# EAGLE library part MICROSD (library CalvEngIO-Connectors)
Micro-SD / Transflash card holder with SPI pinout For the 3M # 2908-05WB-MG and/or 4UCON #19656 push-push type
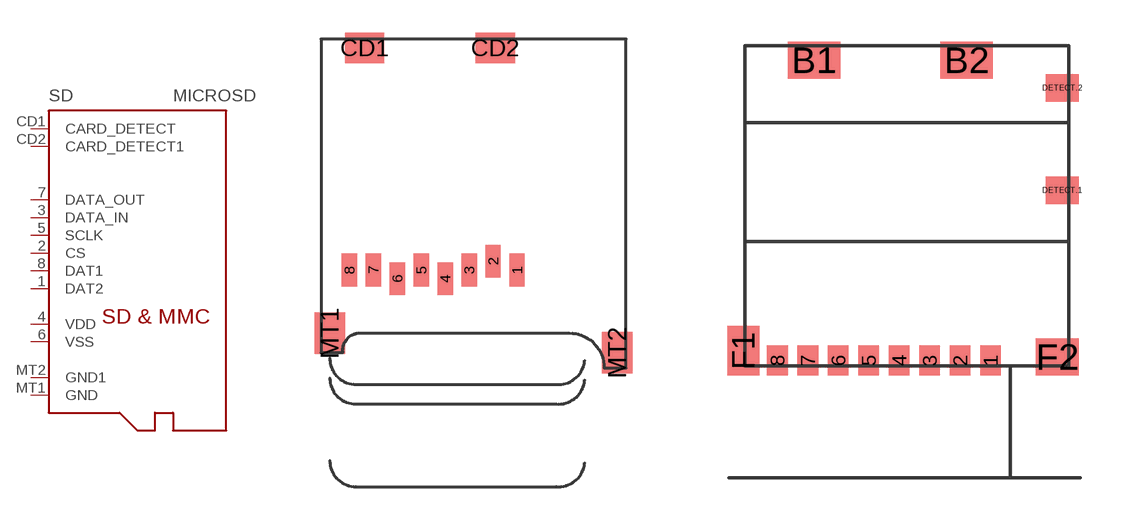
[diagram p14: symbol with the pads of MICROSD; footprints MICROSD, MICROSD.1040310811]

Designator prefix SD

## MICROSD  [MICROSD]
1  DAT2
2  CS  in
3  DATA_IN  in
4  VDD  sup
5  SCLK  in
6  VSS  sup
7  DATA_OUT  out
8  DAT1
CD1  CARD_DETECT  pas
CD2  CARD_DETECT1  pas
MT1  GND  sup
MT2  GND1  sup

## MICROSD.1040310811  [MICROSD.1040310811]
1  DAT2
2  CS  in
3  DATA_IN  in
4  VDD  sup
5  SCLK  in
6  VSS  sup
7  DATA_OUT  out
8  DAT1
B1  GND  sup
B2  GND  sup
DETECT.1  CARD_DETECT  pas
DETECT.2  CARD_DETECT1  pas
F1  GND1  sup
F2  GND1  sup

## Footprint MICROSD (pad centres in mm)
smd 0.7 x 1.5: 1 9,-10.64; 2 7.9,-10.24; 3 6.8,-10.64; 4 5.7,-11.04; 5 4.6,-10.64; 6 3.5,-11.04; 7 2.4,-10.64; 8 1.3,-10.64
smd 1.8 x 1.4: CD1 2,-0.44; CD2 8,-0.44
smd 1.4 x 1.9: MT1 0.4,-13.54; MT2 13.6,-14.44

## Footprint MICROSD.1040310811 (pad centres in mm)
smd 0.75 x 1.1: 1 3.1,0.25; 2 2,0.25; 3 0.9,0.25; 4 -0.2,0.25; 5 -1.3,0.25; 6 -2.4,0.25; 7 -3.5,0.25; 8 -4.6,0.25
smd 1.9 x 1.35: B1 -3.275,11.1; B2 2.24,11.1
smd 1.2 x 1: DETECT.1 5.69,6.4; DETECT.2 5.69,10.1
smd 1.17 x 1.8: F1 -5.825,0.6
smd 1.55 x 1.35: F2 5.515,0.375